# EAGLE library part 6PIN (library headers)
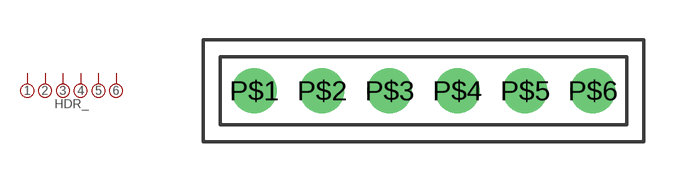
[diagram p0: symbol with the pads of 6PIN; footprint 6PIN]

Designator prefix HDR_

## 6PIN  [6PIN]
P$1  1
P$2  2
P$3  3
P$4  4
P$5  5
P$6  6

## Footprint 6PIN (pad centres in mm)
drill 0.9 pad 1.676: P$1 -6.35,0; P$2 -3.81,0; P$3 -1.27,0; P$4 1.27,0; P$5 3.81,0; P$6 6.35,0